# EAGLE library part PRTR5V0U2F (library TVS_diodes)
TVS DIODE 5.5VWM SOT886
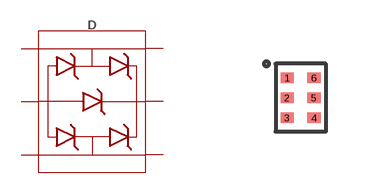
[diagram p2: symbol with the pads of SOT886; footprint SOT886]

Designator prefix D

## PRTR5V0U2F (DIGIKEY#: 568-4677-1-ND; MANF: NXP Semiconductors; MANF#: PRTR5V0U2F,115)  [SOT886]
1  1
2  2
3  3
4  4
5  5
6  6

## Footprint SOT886 (pad centres in mm)
smd 0.325 x 0.27: 1 -0.338,0.5; 2 -0.338,0; 3 -0.338,-0.5; 4 0.338,-0.5; 5 0.338,0; 6 0.338,0.5